# EAGLE library part TRANSFORMER (library drag-custom)
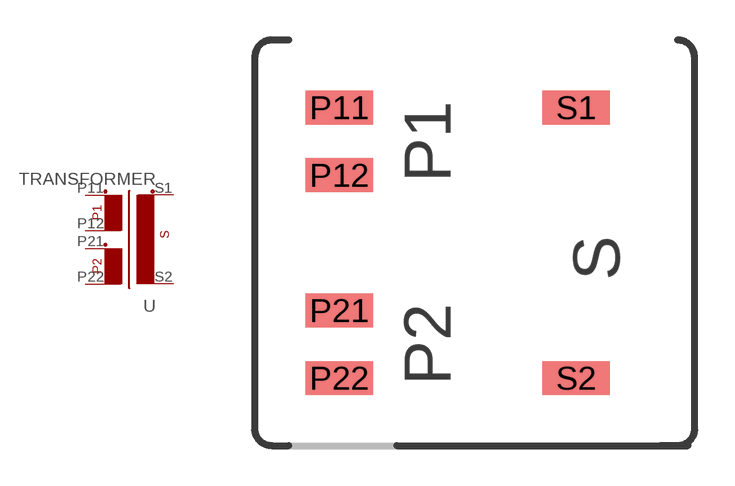
[diagram p11: symbol with the pads of TRANSFORMER; footprint TRANSFORMER]

Designator prefix -

## TRANSFORMER  [TRANSFORMER]
P11  P11  pas
P12  P12  pas
P21  P21  pas
P22  P22  pas
S1  S1  pas
S2  S2  pas

## Footprint TRANSFORMER (pad centres in mm)
smd 2.54 x 1.27: P11 -8.89,5.08; P12 -8.89,2.54; P21 -8.89,-2.54; P22 -8.89,-5.08; S1 0,5.08; S2 0,-5.08